# Altium footprint library Gimbal.PcbLib: 23 footprints (part 2 of 2)
Each footprint in its own frame and in the unit in brackets; x right, y up, seen from the top. Pads: shape width x height; smd on the part's side, far side on the other; paste and mask are expansions set on the pad; w line width, h text height; cw(c..) or ccw(c..) is an arc to the next point about the centre after c.
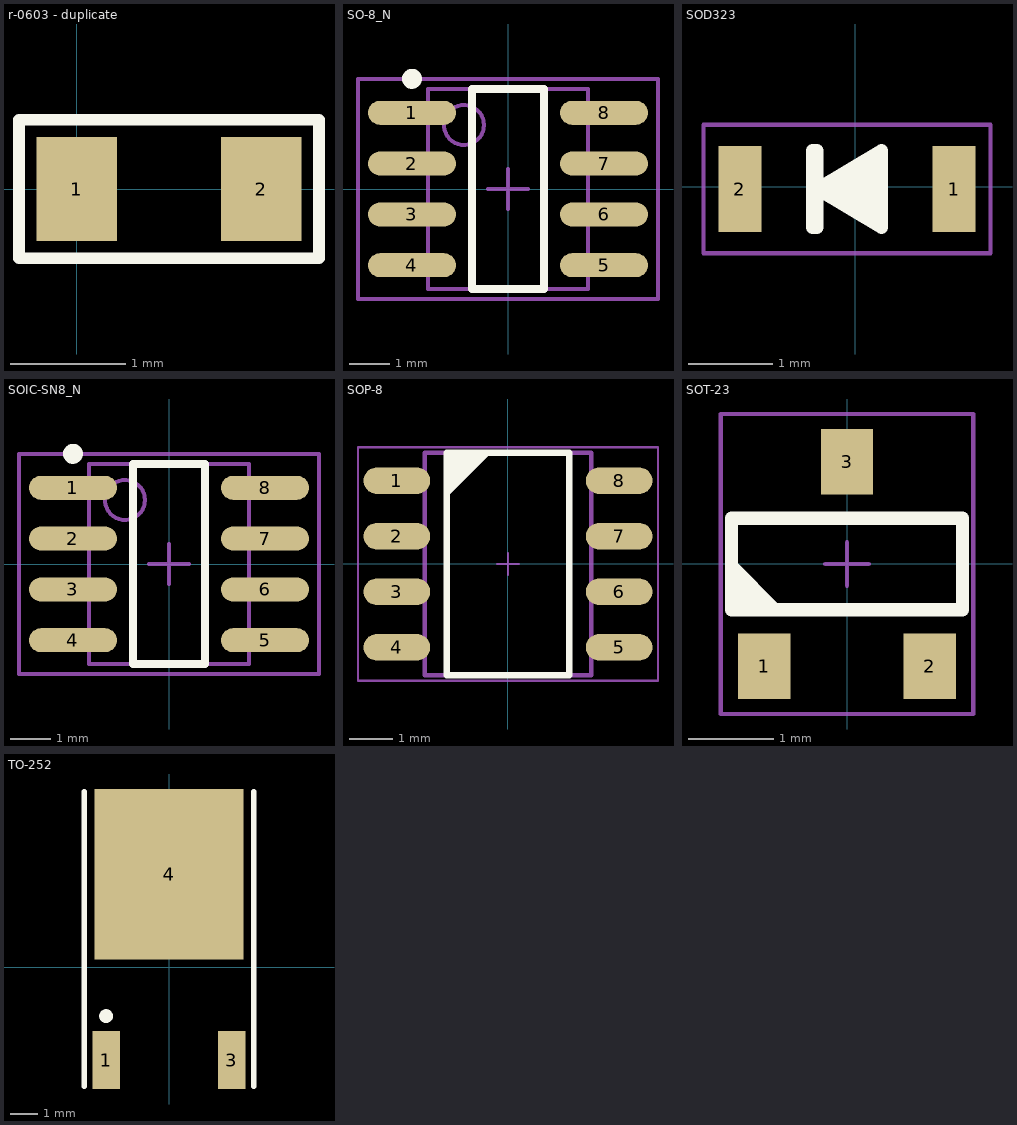
[diagram p1: the footprints below, top view; thin cyan lines are the x and y axes]

## r-0603 - duplicate [mm]
pads (2):
  rect 0.7x0.9 smd: 1(0,0) 2(1.6,0)
Top Overlay:
  lines w0.1: -0.5,-0.6 -0.5,0.1 -0.5,0.6 2.1,0.6 2.1,-0.6 -0.5,-0.6

## SO-8_N [mm] "SOIC, 8-Leads, Body 4.9x3.9mm, Pitch 1.27mm, IPC Medium Density"
height 1.75
pads (8):
  oval 2.2x0.6 smd: 1(-2.4,1.905) 2(-2.4,0.635) 3(-2.4,-0.635) 4(-2.4,-1.905) 5(2.4,-1.905) 6(2.4,-0.635) 7(2.4,0.635) 8(2.4,1.905)
Top Overlay:
  circle w0.25: c-2.4,2.755 r0.125
  lines w0.2: -0.9,-2.5 -0.9,2.5 0.9,2.5 0.9,-2.5 -0.9,-2.5
Mechanical 13:
  circle w0.1: c-1.1,1.6 r0.5
  lines w0.1: -2,-2.5 -2,2.5 2,2.5 2,-2.5 -2,-2.5
Mechanical 15:
  lines w0.1: -0.5,0 0.5,0 ; 0,-0.5 0,0.5 ; -3.75,-2.75 -3.75,2.75 3.75,2.75 3.75,-2.75 -3.75,-2.75
3D body "SO-8.STEP": height 1.7, standoff 0, extent -3,-2.45 3,2.45

## SOD323 [mil] "SOD-323; 2 Leads; Body 1.8 x 1.35 mm, (LxW)"
height 45.28
pads (2):
  rect 20x40 smd: 1(46,-0.98) 2(-53.87,-0.98)
Top Overlay:
  region: 12.06,17.02 12.06,-18.98 -17.94,-0.98
  lines w6: -19.94,-18.98 -19.94,17.02 -17.94,17.02 -17.94,-18.98 -19.94,-18.98 ; -17.94,-0.98 12.06,-18.98 12.06,17.02 -17.94,-0.98
Mechanical 13:
  lines w2: -13.94,-0.98 6.06,-0.98 ; -3.94,-10.98 -3.94,9.02
Mechanical 14:
  lines w2: -70.87,-30.98 62.99,-30.98 62.99,29.02 -70.87,29.02 -70.87,-30.98
3D body "SOD323.STEP": height 43.31, standoff 0, extent -55.12,-27.56 47.24,25.59

## SOIC-SN8_N [mm] "SOIC, 8-Leads, Body 4.9x3.8mm, Pitch 1.27mm, IPC Medium Density"
height 1.75
pads (8):
  oval 2.2x0.6 smd: 1(-2.4,1.905) 2(-2.4,0.635) 3(-2.4,-0.635) 4(-2.4,-1.905) 5(2.4,-1.905) 6(2.4,-0.635) 7(2.4,0.635) 8(2.4,1.905)
Top Overlay:
  circle w0.25: c-2.4,2.755 r0.125
  lines w0.2: -0.9,-2.5 0.9,-2.5 0.9,2.5 -0.9,2.5 -0.9,-2.5
Mechanical 13:
  circle w0.1: c-1.1,1.6 r0.5
  lines w0.1: -2,-2.5 2,-2.5 2,2.5 -2,2.5 -2,-2.5
Mechanical 15:
  lines w0.1: -0.5,0 0.5,0 ; 0,-0.5 0,0.5 ; -3.75,-2.75 3.75,-2.75 3.75,2.75 -3.75,2.75 -3.75,-2.75
3D body "User Library-SOIC-8-1.step": height 1.75, standoff 0, extent -3,-2.45 3,2.45

## SOP-8 [mil]
pads (8):
  oval 60x24 smd: 1(-100,75) 2(-100,25) 3(-100,-25) 4(-100,-75) 5(100,-75) 6(100,-25) 7(100,25) 8(100,75)
Top Overlay:
  region: -55,100 -15,100 -55,60
  lines w6: -55,-100 55,-100 55,100 -55,100 -55,-100
Mechanical 13:
  lines w2: -10,0 10,0 ; 0,-10 0,10
  lines w4: -75,-100 -75,100 75,100 75,-100 -75,-100
Mechanical 14:
  lines w2: -135,-105 135,-105 135,105 -135,105 -135,-105
3D body "User Library-SOIC-8-1.STEP": height 68.9, standoff 0, extent -118.1,-96.46 118.12,96.46

## SOT-23 [mil]
pads (3):
  rect 24x30 smd: 1(-38,-47) 2(38,-47) 3(0,47)
Top Overlay:
  region: -53,-21 -53,3 -29,-21
  lines w6: -53,-21 -53,21 53,21 53,-21 -53,-21
Mechanical 13:
  lines w2: -10,0 10,0 ; 0,-10 0,10
Mechanical 14:
  lines w2: -58,-68.9 -58,68.9 58,68.9 58,-68.9 -58,-68.9
3D body "User Library-SOT23-3.STEP": height 51.18, standoff 0, extent -57.09,-55.12 57.09,55.12

## TO-252 [mm] "D-PAK/TO-252-AA; 3 Leads (1 Cropped); Body 10.1 (inc. leads) x 6.6 mm (LxW max)"
height 2.4
pads (3):
  rect 1x2.1 smd: 1(-2.285,-3.375) 3(2.285,-3.375)
  rect 5.4x6.2 smd: 4(0,3.375)
Top Overlay:
  circle w0.25: c-2.285,-1.775 r0.125
  lines w0.2: -3.085,-4.325 -3.085,6.375 ; 3.085,-4.325 3.085,6.375
3D body "TO-252.STEP": height 2.3, standoff -0.11, extent -3.259,-3.726 3.281,6.212